# EAGLE library part AD7790BRMZ (library Analog_Device)
Sigma-Delta Analog-to-Digital Converters
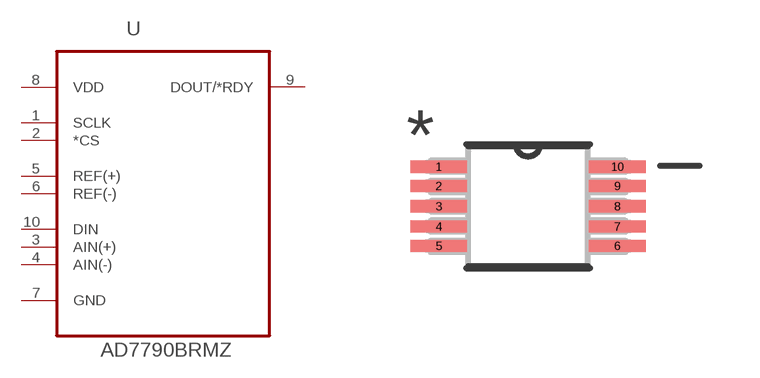
[diagram p3: symbol with the pads of SOP50P490X110-10N; footprint SOP50P490X110-10N]

Designator prefix U

## AD7790BRMZ (MPN: AD7790BRMZ; OC_FARNELL: 1438545; OC_NEWARK: 59K5456; PACKAGE: MSOP-10; SUPPLIER: Analog Devices)  [SOP50P490X110-10N]
1  SCLK  in
2  *CS  in
3  AIN(+)  in
4  AIN(-)  in
5  REF(+)  in
6  REF(-)  in
7  GND  pas
8  VDD  pwr
9  DOUT/*RDY  out
10  DIN  in

## Footprint SOP50P490X110-10N (pad centres in mm)
smd 1.422 x 0.305: 1 -2.235,0.991; 2 -2.235,0.508; 3 -2.235,0; 4 -2.235,-0.508; 5 -2.235,-0.991; 6 2.235,-0.991; 7 2.235,-0.508; 8 2.235,0; 9 2.235,0.508; 10 2.235,0.991